# Altium schematic symbol library IC_Sillicon_Labs_SI8600AC-B-IS.SchLib: 1 symbol
Pins are listed as number, name and electrical type; pins without a type are passive.

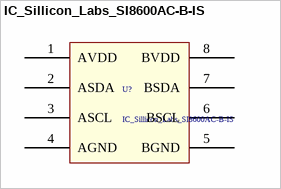
[diagram p0: symbol IC_Sillicon_Labs_SI8600AC-B-IS]

## IC_Sillicon_Labs_SI8600AC-B-IS
designator U?
Digital Isolators 3.75 kV 2-channel bi-directional isolator; Supplier 1: Mouser; Supplier Part Number 1: 634-SI8600AC-B-IS
pins: 1 AVDD, 2 ASDA, 3 ASCL, 4 AGND, 5 BGND, 6 BSCL, 7 BSDA, 8 BVDD